# Altium integrated library Microchip SST Flash.IntLib: 291 symbols (part 28 of 38)
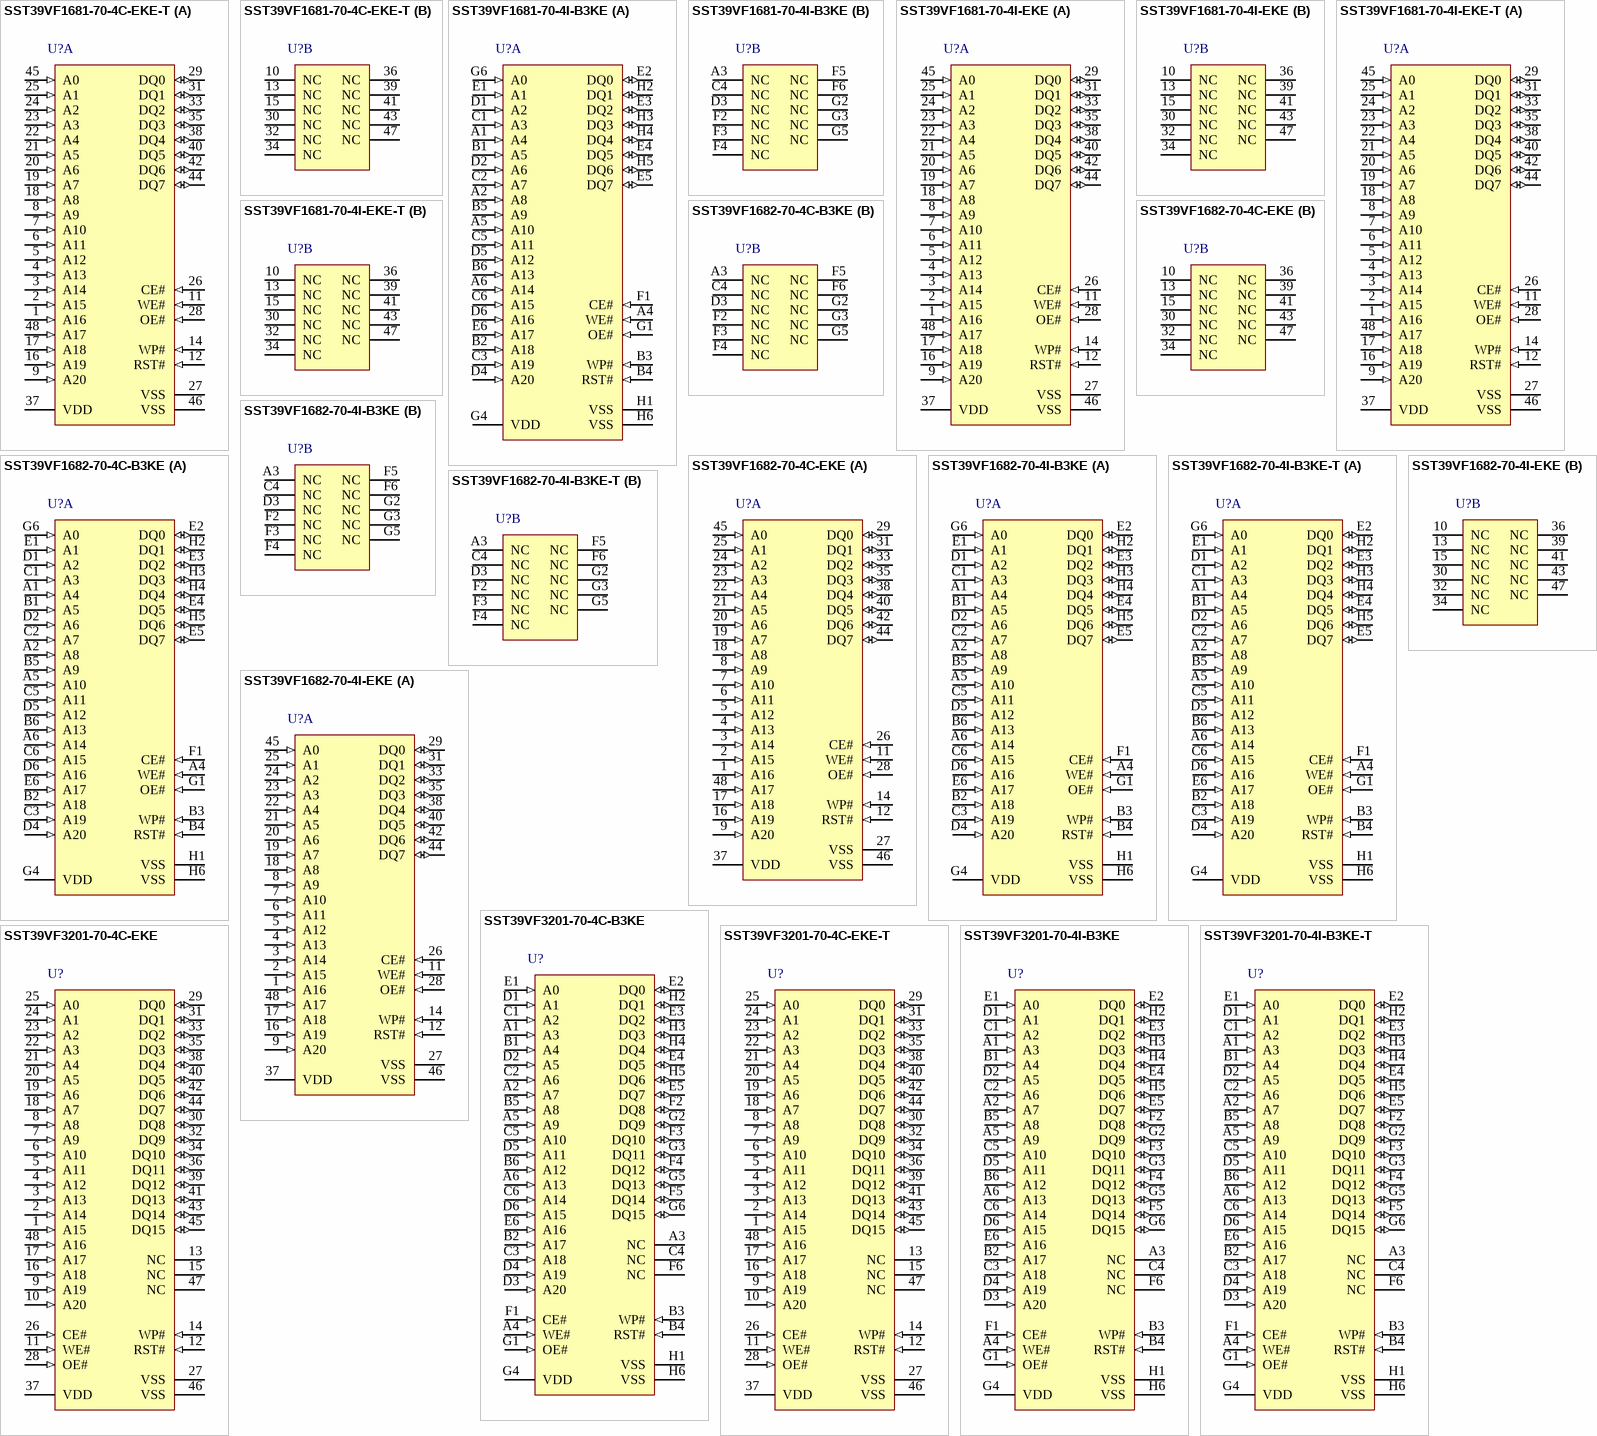
[diagram p42: symbols SST39VF1681-70-4C-EKE-T to SST39VF3201-70-4I-B3KE-T]

## SST39VF1681-70-4C-EKE-T
designator U?
16 Mbit Multi-Purpose Flash Plus, 2.7 to 3.6 V, 0 to 70 degC, 48-pin TSOP (EK48), Tape and Reel; Manufacturer: Microchip; PartNumber: SST39VF1681-70-4C-EKE-T; DatasheetVersion: DS25040A; PackageVersion: Rev. A; PackageReference: TSOP-EK48; PackageDescription: 48-Lead Thin Small Outline Package, 18.4 x 12 mm Body, 0.5 mm Pitch; Supplier 1: Digi-Key; Supplier Part Number 1: SST39VF1681-70-4C-EKE-T-ND; Supplier 2: Mouser; Supplier Part Number 2: 804-39VF16817CEKE-T; Mounting Technology: Surface Mount; Code_JEDEC: MO-142; ComponentLink1Description: Manufacturer URL; ComponentLink1URL: http://www.microchip.com; ComponentLink2Description: Datasheet; ComponentLink2URL: http://ww1.microchip.com/downloads/en/DeviceDoc/25040A.pdf; ComponentLink3Description: Package Specification; ComponentLink3URL: http://ww1.microchip.com/downloads/en/DeviceDoc/25008A.pdf; ComponentLink4Description: Product URL; ComponentLink4URL: http://www.microchip.com/SST39VF1681
footprint MCHP-TSOP-EK48_N (SOP, 48-Leads, Body 18.4x12mm, Pitch 0.5mm, IPC Medium Density,)
footprint MCHP-TSOP-EK48_L (SOP, 48-Leads, Body 18.4x12mm, Pitch 0.5mm, IPC High Density)
footprint MCHP-TSOP-EK48_M (SOP, 48-Leads, Body 18.4x12mm, Pitch 0.5mm, IPC Low Density,)
part A pins: 1 A16 (in) "To provide memory addresses. During Sector-Erase AMS-A12 address lines will select the sector. During Block-Erase AMS-A16 address lines will select the block.", 2 A15 (in) "To provide memory addresses. During Sector-Erase AMS-A12 address lines will select the sector. During Block-Erase AMS-A16 address lines will select the block.", 3 A14 (in) "To provide memory addresses. During Sector-Erase AMS-A12 address lines will select the sector. During Block-Erase AMS-A16 address lines will select the block.", 4 A13 (in) "To provide memory addresses. During Sector-Erase AMS-A12 address lines will select the sector. During Block-Erase AMS-A16 address lines will select the block.", 5 A12 (in) "To provide memory addresses. During Sector-Erase AMS-A12 address lines will select the sector. During Block-Erase AMS-A16 address lines will select the block.", 6 A11 (in) "To provide memory addresses. During Sector-Erase AMS-A12 address lines will select the sector. During Block-Erase AMS-A16 address lines will select the block.", 7 A10 (in) "To provide memory addresses. During Sector-Erase AMS-A12 address lines will select the sector. During Block-Erase AMS-A16 address lines will select the block.", 8 A9 (in) "To provide memory addresses. During Sector-Erase AMS-A12 address lines will select the sector. During Block-Erase AMS-A16 address lines will select the block.", 9 A20 (in) "To provide memory addresses. During Sector-Erase AMS-A12 address lines will select the sector. During Block-Erase AMS-A16 address lines will select the block.", 11 WE# (in) "To control the Write operations.", 12 RST# (in) "To reset and return the device to Read mode.", 14 WP# (in) "To protect the top/bottom boot block from Erase/Program operation when grounded.", 16 A19 (in) "To provide memory addresses. During Sector-Erase AMS-A12 address lines will select the sector. During Block-Erase AMS-A16 address lines will select the block.", 17 A18 (in) "To provide memory addresses. During Sector-Erase AMS-A12 address lines will select the sector. During Block-Erase AMS-A16 address lines will select the block.", 18 A8 (in) "To provide memory addresses. During Sector-Erase AMS-A12 address lines will select the sector. During Block-Erase AMS-A16 address lines will select the block.", 19 A7 (in) "To provide memory addresses. During Sector-Erase AMS-A12 address lines will select the sector. During Block-Erase AMS-A16 address lines will select the block.", 20 A6 (in) "To provide memory addresses. During Sector-Erase AMS-A12 address lines will select the sector. During Block-Erase AMS-A16 address lines will select the block.", 21 A5 (in) "To provide memory addresses. During Sector-Erase AMS-A12 address lines will select the sector. During Block-Erase AMS-A16 address lines will select the block.", 22 A4 (in) "To provide memory addresses. During Sector-Erase AMS-A12 address lines will select the sector. During Block-Erase AMS-A16 address lines will select the block.", 23 A3 (in) "To provide memory addresses. During Sector-Erase AMS-A12 address lines will select the sector. During Block-Erase AMS-A16 address lines will select the block.", 24 A2 (in) "To provide memory addresses. During Sector-Erase AMS-A12 address lines will select the sector. During Block-Erase AMS-A16 address lines will select the block.", 25 A1 (in) "To provide memory addresses. During Sector-Erase AMS-A12 address lines will select the sector. During Block-Erase AMS-A16 address lines will select the block.", 26 CE# (in) "To activate the device when CE# is low.", 27 VSS (power), 28 OE# (in) "To gate the data output buffers.", 29 DQ0 (io) "To output data during Read cycles and receive input data during Write cycles.Data is internally latched during a Write cycle. The outputs are in tri-state when OE# or CE# is high.", 31 DQ1 (io) "To output data during Read cycles and receive input data during Write cycles.Data is internally latched during a Write cycle. The outputs are in tri-state when OE# or CE# is high.", 33 DQ2 (io) "To output data during Read cycles and receive input data during Write cycles.Data is internally latched during a Write cycle. The outputs are in tri-state when OE# or CE# is high.", 35 DQ3 (io) "To output data during Read cycles and receive input data during Write cycles.Data is internally latched during a Write cycle. The outputs are in tri-state when OE# or CE# is high.", 37 VDD (power) "To provide power supply voltage: 2.7-3.6V", 38 DQ4 (io) "To output data during Read cycles and receive input data during Write cycles.Data is internally latched during a Write cycle. The outputs are in tri-state when OE# or CE# is high.", 40 DQ5 (io) "To output data during Read cycles and receive input data during Write cycles.Data is internally latched during a Write cycle. The outputs are in tri-state when OE# or CE# is high.", 42 DQ6 (io) "To output data during Read cycles and receive input data during Write cycles.Data is internally latched during a Write cycle. The outputs are in tri-state when OE# or CE# is high.", 44 DQ7 (io) "To output data during Read cycles and receive input data during Write cycles.Data is internally latched during a Write cycle. The outputs are in tri-state when OE# or CE# is high.", 45 A0 (in) "To provide memory addresses. During Sector-Erase AMS-A12 address lines will select the sector. During Block-Erase AMS-A16 address lines will select the block.", 46 VSS (power), 48 A17 (in) "To provide memory addresses. During Sector-Erase AMS-A12 address lines will select the sector. During Block-Erase AMS-A16 address lines will select the block."
part B pins: 10 NC "Unconnected pins.", 13 NC "Unconnected pins.", 15 NC "Unconnected pins.", 30 NC "Unconnected pins.", 32 NC "Unconnected pins.", 34 NC "Unconnected pins.", 36 NC "Unconnected pins.", 39 NC "Unconnected pins.", 41 NC "Unconnected pins.", 43 NC "Unconnected pins.", 47 NC "Unconnected pins."

## SST39VF1681-70-4I-B3KE
designator U?
16 Mbit Multi-Purpose Flash Plus, 2.7 to 3.6 V, -40 to 85 degC, 48-pin TFBGA (B3K48), Tray; Manufacturer: Microchip; PartNumber: SST39VF1681-70-4I-B3KE; DatasheetVersion: DS25040A; PackageVersion: Rev. A; PackageReference: TFBGA-B3K48; PackageDescription: 48-Ball Thin-Profile, Fine-Pitch Ball Grid Array, 8 x 6 mm Body, 0.8 mm Pitch; Supplier 1: Digi-Key; Supplier Part Number 1: SST39VF1681-70-4I-B3KE-ND; Supplier 2: Mouser; Supplier Part Number 2: 804-39VF16817IB3KE; Mounting Technology: Surface Mount; Code_JEDEC: MO-210; ComponentLink1Description: Manufacturer URL; ComponentLink1URL: http://www.microchip.com; ComponentLink2Description: Datasheet; ComponentLink2URL: http://ww1.microchip.com/downloads/en/DeviceDoc/25040A.pdf; ComponentLink3Description: Package Specification; ComponentLink3URL: http://www.microchip.com/stellent/groups/techpub_sg/documents/packagingspec/en012702.pdf; ComponentLink4Description: Product URL; ComponentLink4URL: http://www.microchip.com/SST39VF1681
footprint MCHP-TFBGA-B3K48 (BGA, 48-Balls, Body 8x6mm, Pitch 0.8mm)
part A pins: A1 A4 (in) "To provide memory addresses. During Sector-Erase AMS-A12 address lines will select the sector. During Block-Erase AMS-A16 address lines will select the block.", A2 A8 (in) "To provide memory addresses. During Sector-Erase AMS-A12 address lines will select the sector. During Block-Erase AMS-A16 address lines will select the block.", A4 WE# (in) "To control the Write operations.", A5 A10 (in) "To provide memory addresses. During Sector-Erase AMS-A12 address lines will select the sector. During Block-Erase AMS-A16 address lines will select the block.", A6 A14 (in) "To provide memory addresses. During Sector-Erase AMS-A12 address lines will select the sector. During Block-Erase AMS-A16 address lines will select the block.", B1 A5 (in) "To provide memory addresses. During Sector-Erase AMS-A12 address lines will select the sector. During Block-Erase AMS-A16 address lines will select the block.", B2 A18 (in) "To provide memory addresses. During Sector-Erase AMS-A12 address lines will select the sector. During Block-Erase AMS-A16 address lines will select the block.", B3 WP# (in) "To protect the top/bottom boot block from Erase/Program operation when grounded.", B4 RST# (in) "To reset and return the device to Read mode.", B5 A9 (in) "To provide memory addresses. During Sector-Erase AMS-A12 address lines will select the sector. During Block-Erase AMS-A16 address lines will select the block.", B6 A13 (in) "To provide memory addresses. During Sector-Erase AMS-A12 address lines will select the sector. During Block-Erase AMS-A16 address lines will select the block.", C1 A3 (in) "To provide memory addresses. During Sector-Erase AMS-A12 address lines will select the sector. During Block-Erase AMS-A16 address lines will select the block.", C2 A7 (in) "To provide memory addresses. During Sector-Erase AMS-A12 address lines will select the sector. During Block-Erase AMS-A16 address lines will select the block.", C3 A19 (in) "To provide memory addresses. During Sector-Erase AMS-A12 address lines will select the sector. During Block-Erase AMS-A16 address lines will select the block.", C5 A11 (in) "To provide memory addresses. During Sector-Erase AMS-A12 address lines will select the sector. During Block-Erase AMS-A16 address lines will select the block.", C6 A15 (in) "To provide memory addresses. During Sector-Erase AMS-A12 address lines will select the sector. During Block-Erase AMS-A16 address lines will select the block.", D1 A2 (in) "To provide memory addresses. During Sector-Erase AMS-A12 address lines will select the sector. During Block-Erase AMS-A16 address lines will select the block.", D2 A6 (in) "To provide memory addresses. During Sector-Erase AMS-A12 address lines will select the sector. During Block-Erase AMS-A16 address lines will select the block.", D4 A20 (in) "To provide memory addresses. During Sector-Erase AMS-A12 address lines will select the sector. During Block-Erase AMS-A16 address lines will select the block.", D5 A12 (in) "To provide memory addresses. During Sector-Erase AMS-A12 address lines will select the sector. During Block-Erase AMS-A16 address lines will select the block.", D6 A16 (in) "To provide memory addresses. During Sector-Erase AMS-A12 address lines will select the sector. During Block-Erase AMS-A16 address lines will select the block.", E1 A1 (in) "To provide memory addresses. During Sector-Erase AMS-A12 address lines will select the sector. During Block-Erase AMS-A16 address lines will select the block.", E2 DQ0 (io) "To output data during Read cycles and receive input data during Write cycles.Data is internally latched during a Write cycle. The outputs are in tri-state when OE# or CE# is high.", E3 DQ2 (io) "To output data during Read cycles and receive input data during Write cycles.Data is internally latched during a Write cycle. The outputs are in tri-state when OE# or CE# is high.", E4 DQ5 (io) "To output data during Read cycles and receive input data during Write cycles.Data is internally latched during a Write cycle. The outputs are in tri-state when OE# or CE# is high.", E5 DQ7 (io) "To output data during Read cycles and receive input data during Write cycles.Data is internally latched during a Write cycle. The outputs are in tri-state when OE# or CE# is high.", E6 A17 (in) "To provide memory addresses. During Sector-Erase AMS-A12 address lines will select the sector. During Block-Erase AMS-A16 address lines will select the block.", F1 CE# (in) "To activate the device when CE# is low.", G1 OE# (in) "To gate the data output buffers.", G4 VDD (power) "To provide power supply voltage: 2.7-3.6V", G6 A0 (in) "To provide memory addresses. During Sector-Erase AMS-A12 address lines will select the sector. During Block-Erase AMS-A16 address lines will select the block.", H1 VSS (power), H2 DQ1 (io) "To output data during Read cycles and receive input data during Write cycles.Data is internally latched during a Write cycle. The outputs are in tri-state when OE# or CE# is high.", H3 DQ3 (io) "To output data during Read cycles and receive input data during Write cycles.Data is internally latched during a Write cycle. The outputs are in tri-state when OE# or CE# is high.", H4 DQ4 (io) "To output data during Read cycles and receive input data during Write cycles.Data is internally latched during a Write cycle. The outputs are in tri-state when OE# or CE# is high.", H5 DQ6 (io) "To output data during Read cycles and receive input data during Write cycles.Data is internally latched during a Write cycle. The outputs are in tri-state when OE# or CE# is high.", H6 VSS (power)
part B pins: A3 NC "Unconnected pins.", C4 NC "Unconnected pins.", D3 NC "Unconnected pins.", F2 NC "Unconnected pins.", F3 NC "Unconnected pins.", F4 NC "Unconnected pins.", F5 NC "Unconnected pins.", F6 NC "Unconnected pins.", G2 NC "Unconnected pins.", G3 NC "Unconnected pins.", G5 NC "Unconnected pins."

## SST39VF1681-70-4I-EKE
designator U?
16 Mbit Multi-Purpose Flash Plus, 2.7 to 3.6 V, -40 to 85 degC, 48-pin TSOP (EK48), Tray; Manufacturer: Microchip; PartNumber: SST39VF1681-70-4I-EKE; DatasheetVersion: DS25040A; PackageVersion: Rev. A; PackageReference: TSOP-EK48; PackageDescription: 48-Lead Thin Small Outline Package, 18.4 x 12 mm Body, 0.5 mm Pitch; Supplier 1: Digi-Key; Supplier Part Number 1: SST39VF1681-70-4I-EKE-ND; Supplier 2: Farnell; Supplier Part Number 2: 1829992; Supplier 3: Newark; Supplier Part Number 3: 92R4797; Supplier 4: Mouser; Supplier Part Number 4: 804-39VF16817IEKE; Mounting Technology: Surface Mount; Code_JEDEC: MO-142; ComponentLink1Description: Manufacturer URL; ComponentLink1URL: http://www.microchip.com; ComponentLink2Description: Datasheet; ComponentLink2URL: http://ww1.microchip.com/downloads/en/DeviceDoc/25040A.pdf; ComponentLink3Description: Package Specification; ComponentLink3URL: http://ww1.microchip.com/downloads/en/DeviceDoc/25008A.pdf; ComponentLink4Description: Product URL; ComponentLink4URL: http://www.microchip.com/SST39VF1681
footprint MCHP-TSOP-EK48_N (SOP, 48-Leads, Body 18.4x12mm, Pitch 0.5mm, IPC Medium Density,)
footprint MCHP-TSOP-EK48_L (SOP, 48-Leads, Body 18.4x12mm, Pitch 0.5mm, IPC High Density)
footprint MCHP-TSOP-EK48_M (SOP, 48-Leads, Body 18.4x12mm, Pitch 0.5mm, IPC Low Density,)
part A pins: 1 A16 (in) "To provide memory addresses. During Sector-Erase AMS-A12 address lines will select the sector. During Block-Erase AMS-A16 address lines will select the block.", 2 A15 (in) "To provide memory addresses. During Sector-Erase AMS-A12 address lines will select the sector. During Block-Erase AMS-A16 address lines will select the block.", 3 A14 (in) "To provide memory addresses. During Sector-Erase AMS-A12 address lines will select the sector. During Block-Erase AMS-A16 address lines will select the block.", 4 A13 (in) "To provide memory addresses. During Sector-Erase AMS-A12 address lines will select the sector. During Block-Erase AMS-A16 address lines will select the block.", 5 A12 (in) "To provide memory addresses. During Sector-Erase AMS-A12 address lines will select the sector. During Block-Erase AMS-A16 address lines will select the block.", 6 A11 (in) "To provide memory addresses. During Sector-Erase AMS-A12 address lines will select the sector. During Block-Erase AMS-A16 address lines will select the block.", 7 A10 (in) "To provide memory addresses. During Sector-Erase AMS-A12 address lines will select the sector. During Block-Erase AMS-A16 address lines will select the block.", 8 A9 (in) "To provide memory addresses. During Sector-Erase AMS-A12 address lines will select the sector. During Block-Erase AMS-A16 address lines will select the block.", 9 A20 (in) "To provide memory addresses. During Sector-Erase AMS-A12 address lines will select the sector. During Block-Erase AMS-A16 address lines will select the block.", 11 WE# (in) "To control the Write operations.", 12 RST# (in) "To reset and return the device to Read mode.", 14 WP# (in) "To protect the top/bottom boot block from Erase/Program operation when grounded.", 16 A19 (in) "To provide memory addresses. During Sector-Erase AMS-A12 address lines will select the sector. During Block-Erase AMS-A16 address lines will select the block.", 17 A18 (in) "To provide memory addresses. During Sector-Erase AMS-A12 address lines will select the sector. During Block-Erase AMS-A16 address lines will select the block.", 18 A8 (in) "To provide memory addresses. During Sector-Erase AMS-A12 address lines will select the sector. During Block-Erase AMS-A16 address lines will select the block.", 19 A7 (in) "To provide memory addresses. During Sector-Erase AMS-A12 address lines will select the sector. During Block-Erase AMS-A16 address lines will select the block.", 20 A6 (in) "To provide memory addresses. During Sector-Erase AMS-A12 address lines will select the sector. During Block-Erase AMS-A16 address lines will select the block.", 21 A5 (in) "To provide memory addresses. During Sector-Erase AMS-A12 address lines will select the sector. During Block-Erase AMS-A16 address lines will select the block.", 22 A4 (in) "To provide memory addresses. During Sector-Erase AMS-A12 address lines will select the sector. During Block-Erase AMS-A16 address lines will select the block.", 23 A3 (in) "To provide memory addresses. During Sector-Erase AMS-A12 address lines will select the sector. During Block-Erase AMS-A16 address lines will select the block.", 24 A2 (in) "To provide memory addresses. During Sector-Erase AMS-A12 address lines will select the sector. During Block-Erase AMS-A16 address lines will select the block.", 25 A1 (in) "To provide memory addresses. During Sector-Erase AMS-A12 address lines will select the sector. During Block-Erase AMS-A16 address lines will select the block.", 26 CE# (in) "To activate the device when CE# is low.", 27 VSS (power), 28 OE# (in) "To gate the data output buffers.", 29 DQ0 (io) "To output data during Read cycles and receive input data during Write cycles.Data is internally latched during a Write cycle. The outputs are in tri-state when OE# or CE# is high.", 31 DQ1 (io) "To output data during Read cycles and receive input data during Write cycles.Data is internally latched during a Write cycle. The outputs are in tri-state when OE# or CE# is high.", 33 DQ2 (io) "To output data during Read cycles and receive input data during Write cycles.Data is internally latched during a Write cycle. The outputs are in tri-state when OE# or CE# is high.", 35 DQ3 (io) "To output data during Read cycles and receive input data during Write cycles.Data is internally latched during a Write cycle. The outputs are in tri-state when OE# or CE# is high.", 37 VDD (power) "To provide power supply voltage: 2.7-3.6V", 38 DQ4 (io) "To output data during Read cycles and receive input data during Write cycles.Data is internally latched during a Write cycle. The outputs are in tri-state when OE# or CE# is high.", 40 DQ5 (io) "To output data during Read cycles and receive input data during Write cycles.Data is internally latched during a Write cycle. The outputs are in tri-state when OE# or CE# is high.", 42 DQ6 (io) "To output data during Read cycles and receive input data during Write cycles.Data is internally latched during a Write cycle. The outputs are in tri-state when OE# or CE# is high.", 44 DQ7 (io) "To output data during Read cycles and receive input data during Write cycles.Data is internally latched during a Write cycle. The outputs are in tri-state when OE# or CE# is high.", 45 A0 (in) "To provide memory addresses. During Sector-Erase AMS-A12 address lines will select the sector. During Block-Erase AMS-A16 address lines will select the block.", 46 VSS (power), 48 A17 (in) "To provide memory addresses. During Sector-Erase AMS-A12 address lines will select the sector. During Block-Erase AMS-A16 address lines will select the block."
part B pins: 10 NC "Unconnected pins.", 13 NC "Unconnected pins.", 15 NC "Unconnected pins.", 30 NC "Unconnected pins.", 32 NC "Unconnected pins.", 34 NC "Unconnected pins.", 36 NC "Unconnected pins.", 39 NC "Unconnected pins.", 41 NC "Unconnected pins.", 43 NC "Unconnected pins.", 47 NC "Unconnected pins."

## SST39VF1681-70-4I-EKE-T
designator U?
16 Mbit Multi-Purpose Flash Plus, 2.7 to 3.6 V, -40 to 85 degC, 48-pin TSOP (EK48), Tape and Reel; Manufacturer: Microchip; PartNumber: SST39VF1681-70-4I-EKE-T; DatasheetVersion: DS25040A; PackageVersion: Rev. A; PackageReference: TSOP-EK48; PackageDescription: 48-Lead Thin Small Outline Package, 18.4 x 12 mm Body, 0.5 mm Pitch; Supplier 1: Digi-Key; Supplier Part Number 1: SST39VF1681-70-4I-EKE-T-ND; Supplier 2: Mouser; Supplier Part Number 2: 579-39VF16817IEKET; Mounting Technology: Surface Mount; Code_JEDEC: MO-142; ComponentLink1Description: Manufacturer URL; ComponentLink1URL: http://www.microchip.com; ComponentLink2Description: Datasheet; ComponentLink2URL: http://ww1.microchip.com/downloads/en/DeviceDoc/25040A.pdf; ComponentLink3Description: Package Specification; ComponentLink3URL: http://ww1.microchip.com/downloads/en/DeviceDoc/25008A.pdf; ComponentLink4Description: Product URL; ComponentLink4URL: http://www.microchip.com/SST39VF1681
footprint MCHP-TSOP-EK48_N (SOP, 48-Leads, Body 18.4x12mm, Pitch 0.5mm, IPC Medium Density,)
footprint MCHP-TSOP-EK48_L (SOP, 48-Leads, Body 18.4x12mm, Pitch 0.5mm, IPC High Density)
footprint MCHP-TSOP-EK48_M (SOP, 48-Leads, Body 18.4x12mm, Pitch 0.5mm, IPC Low Density,)
part A pins: 1 A16 (in) "To provide memory addresses. During Sector-Erase AMS-A12 address lines will select the sector. During Block-Erase AMS-A16 address lines will select the block.", 2 A15 (in) "To provide memory addresses. During Sector-Erase AMS-A12 address lines will select the sector. During Block-Erase AMS-A16 address lines will select the block.", 3 A14 (in) "To provide memory addresses. During Sector-Erase AMS-A12 address lines will select the sector. During Block-Erase AMS-A16 address lines will select the block.", 4 A13 (in) "To provide memory addresses. During Sector-Erase AMS-A12 address lines will select the sector. During Block-Erase AMS-A16 address lines will select the block.", 5 A12 (in) "To provide memory addresses. During Sector-Erase AMS-A12 address lines will select the sector. During Block-Erase AMS-A16 address lines will select the block.", 6 A11 (in) "To provide memory addresses. During Sector-Erase AMS-A12 address lines will select the sector. During Block-Erase AMS-A16 address lines will select the block.", 7 A10 (in) "To provide memory addresses. During Sector-Erase AMS-A12 address lines will select the sector. During Block-Erase AMS-A16 address lines will select the block.", 8 A9 (in) "To provide memory addresses. During Sector-Erase AMS-A12 address lines will select the sector. During Block-Erase AMS-A16 address lines will select the block.", 9 A20 (in) "To provide memory addresses. During Sector-Erase AMS-A12 address lines will select the sector. During Block-Erase AMS-A16 address lines will select the block.", 11 WE# (in) "To control the Write operations.", 12 RST# (in) "To reset and return the device to Read mode.", 14 WP# (in) "To protect the top/bottom boot block from Erase/Program operation when grounded.", 16 A19 (in) "To provide memory addresses. During Sector-Erase AMS-A12 address lines will select the sector. During Block-Erase AMS-A16 address lines will select the block.", 17 A18 (in) "To provide memory addresses. During Sector-Erase AMS-A12 address lines will select the sector. During Block-Erase AMS-A16 address lines will select the block.", 18 A8 (in) "To provide memory addresses. During Sector-Erase AMS-A12 address lines will select the sector. During Block-Erase AMS-A16 address lines will select the block.", 19 A7 (in) "To provide memory addresses. During Sector-Erase AMS-A12 address lines will select the sector. During Block-Erase AMS-A16 address lines will select the block.", 20 A6 (in) "To provide memory addresses. During Sector-Erase AMS-A12 address lines will select the sector. During Block-Erase AMS-A16 address lines will select the block.", 21 A5 (in) "To provide memory addresses. During Sector-Erase AMS-A12 address lines will select the sector. During Block-Erase AMS-A16 address lines will select the block.", 22 A4 (in) "To provide memory addresses. During Sector-Erase AMS-A12 address lines will select the sector. During Block-Erase AMS-A16 address lines will select the block.", 23 A3 (in) "To provide memory addresses. During Sector-Erase AMS-A12 address lines will select the sector. During Block-Erase AMS-A16 address lines will select the block.", 24 A2 (in) "To provide memory addresses. During Sector-Erase AMS-A12 address lines will select the sector. During Block-Erase AMS-A16 address lines will select the block.", 25 A1 (in) "To provide memory addresses. During Sector-Erase AMS-A12 address lines will select the sector. During Block-Erase AMS-A16 address lines will select the block.", 26 CE# (in) "To activate the device when CE# is low.", 27 VSS (power), 28 OE# (in) "To gate the data output buffers.", 29 DQ0 (io) "To output data during Read cycles and receive input data during Write cycles.Data is internally latched during a Write cycle. The outputs are in tri-state when OE# or CE# is high.", 31 DQ1 (io) "To output data during Read cycles and receive input data during Write cycles.Data is internally latched during a Write cycle. The outputs are in tri-state when OE# or CE# is high.", 33 DQ2 (io) "To output data during Read cycles and receive input data during Write cycles.Data is internally latched during a Write cycle. The outputs are in tri-state when OE# or CE# is high.", 35 DQ3 (io) "To output data during Read cycles and receive input data during Write cycles.Data is internally latched during a Write cycle. The outputs are in tri-state when OE# or CE# is high.", 37 VDD (power) "To provide power supply voltage: 2.7-3.6V", 38 DQ4 (io) "To output data during Read cycles and receive input data during Write cycles.Data is internally latched during a Write cycle. The outputs are in tri-state when OE# or CE# is high.", 40 DQ5 (io) "To output data during Read cycles and receive input data during Write cycles.Data is internally latched during a Write cycle. The outputs are in tri-state when OE# or CE# is high.", 42 DQ6 (io) "To output data during Read cycles and receive input data during Write cycles.Data is internally latched during a Write cycle. The outputs are in tri-state when OE# or CE# is high.", 44 DQ7 (io) "To output data during Read cycles and receive input data during Write cycles.Data is internally latched during a Write cycle. The outputs are in tri-state when OE# or CE# is high.", 45 A0 (in) "To provide memory addresses. During Sector-Erase AMS-A12 address lines will select the sector. During Block-Erase AMS-A16 address lines will select the block.", 46 VSS (power), 48 A17 (in) "To provide memory addresses. During Sector-Erase AMS-A12 address lines will select the sector. During Block-Erase AMS-A16 address lines will select the block."
part B pins: 10 NC "Unconnected pins.", 13 NC "Unconnected pins.", 15 NC "Unconnected pins.", 30 NC "Unconnected pins.", 32 NC "Unconnected pins.", 34 NC "Unconnected pins.", 36 NC "Unconnected pins.", 39 NC "Unconnected pins.", 41 NC "Unconnected pins.", 43 NC "Unconnected pins.", 47 NC "Unconnected pins."

## SST39VF1682-70-4C-B3KE
designator U?
16 Mbit Multi-Purpose Flash Plus, 2.7 to 3.6 V, 0 to 70 degC, 48-pin TFBGA (B3K48), Tray; Manufacturer: Microchip; PartNumber: SST39VF1682-70-4C-B3KE; DatasheetVersion: DS25040A; PackageVersion: Rev. A; PackageReference: TFBGA-B3K48; PackageDescription: 48-Ball Thin-Profile, Fine-Pitch Ball Grid Array, 8 x 6 mm Body, 0.8 mm Pitch; Supplier 1: Digi-Key; Supplier Part Number 1: SST39VF1682-70-4C-B3KE-ND; Supplier 2: Mouser; Supplier Part Number 2: 804-39VF16827CB3KE; Mounting Technology: Surface Mount; Code_JEDEC: MO-210; ComponentLink1Description: Manufacturer URL; ComponentLink1URL: http://www.microchip.com; ComponentLink2Description: Datasheet; ComponentLink2URL: http://ww1.microchip.com/downloads/en/DeviceDoc/25040A.pdf; ComponentLink3Description: Package Specification; ComponentLink3URL: http://www.microchip.com/stellent/groups/techpub_sg/documents/packagingspec/en012702.pdf; ComponentLink4Description: Product URL; ComponentLink4URL: http://www.microchip.com/SST39VF1682
footprint MCHP-TFBGA-B3K48 (BGA, 48-Balls, Body 8x6mm, Pitch 0.8mm)
part A pins: A1 A4 (in) "To provide memory addresses. During Sector-Erase AMS-A12 address lines will select the sector. During Block-Erase AMS-A16 address lines will select the block.", A2 A8 (in) "To provide memory addresses. During Sector-Erase AMS-A12 address lines will select the sector. During Block-Erase AMS-A16 address lines will select the block.", A4 WE# (in) "To control the Write operations.", A5 A10 (in) "To provide memory addresses. During Sector-Erase AMS-A12 address lines will select the sector. During Block-Erase AMS-A16 address lines will select the block.", A6 A14 (in) "To provide memory addresses. During Sector-Erase AMS-A12 address lines will select the sector. During Block-Erase AMS-A16 address lines will select the block.", B1 A5 (in) "To provide memory addresses. During Sector-Erase AMS-A12 address lines will select the sector. During Block-Erase AMS-A16 address lines will select the block.", B2 A18 (in) "To provide memory addresses. During Sector-Erase AMS-A12 address lines will select the sector. During Block-Erase AMS-A16 address lines will select the block.", B3 WP# (in) "To protect the top/bottom boot block from Erase/Program operation when grounded.", B4 RST# (in) "To reset and return the device to Read mode.", B5 A9 (in) "To provide memory addresses. During Sector-Erase AMS-A12 address lines will select the sector. During Block-Erase AMS-A16 address lines will select the block.", B6 A13 (in) "To provide memory addresses. During Sector-Erase AMS-A12 address lines will select the sector. During Block-Erase AMS-A16 address lines will select the block.", C1 A3 (in) "To provide memory addresses. During Sector-Erase AMS-A12 address lines will select the sector. During Block-Erase AMS-A16 address lines will select the block.", C2 A7 (in) "To provide memory addresses. During Sector-Erase AMS-A12 address lines will select the sector. During Block-Erase AMS-A16 address lines will select the block.", C3 A19 (in) "To provide memory addresses. During Sector-Erase AMS-A12 address lines will select the sector. During Block-Erase AMS-A16 address lines will select the block.", C5 A11 (in) "To provide memory addresses. During Sector-Erase AMS-A12 address lines will select the sector. During Block-Erase AMS-A16 address lines will select the block.", C6 A15 (in) "To provide memory addresses. During Sector-Erase AMS-A12 address lines will select the sector. During Block-Erase AMS-A16 address lines will select the block.", D1 A2 (in) "To provide memory addresses. During Sector-Erase AMS-A12 address lines will select the sector. During Block-Erase AMS-A16 address lines will select the block.", D2 A6 (in) "To provide memory addresses. During Sector-Erase AMS-A12 address lines will select the sector. During Block-Erase AMS-A16 address lines will select the block.", D4 A20 (in) "To provide memory addresses. During Sector-Erase AMS-A12 address lines will select the sector. During Block-Erase AMS-A16 address lines will select the block.", D5 A12 (in) "To provide memory addresses. During Sector-Erase AMS-A12 address lines will select the sector. During Block-Erase AMS-A16 address lines will select the block.", D6 A16 (in) "To provide memory addresses. During Sector-Erase AMS-A12 address lines will select the sector. During Block-Erase AMS-A16 address lines will select the block.", E1 A1 (in) "To provide memory addresses. During Sector-Erase AMS-A12 address lines will select the sector. During Block-Erase AMS-A16 address lines will select the block.", E2 DQ0 (io) "To output data during Read cycles and receive input data during Write cycles.Data is internally latched during a Write cycle. The outputs are in tri-state when OE# or CE# is high.", E3 DQ2 (io) "To output data during Read cycles and receive input data during Write cycles.Data is internally latched during a Write cycle. The outputs are in tri-state when OE# or CE# is high.", E4 DQ5 (io) "To output data during Read cycles and receive input data during Write cycles.Data is internally latched during a Write cycle. The outputs are in tri-state when OE# or CE# is high.", E5 DQ7 (io) "To output data during Read cycles and receive input data during Write cycles.Data is internally latched during a Write cycle. The outputs are in tri-state when OE# or CE# is high.", E6 A17 (in) "To provide memory addresses. During Sector-Erase AMS-A12 address lines will select the sector. During Block-Erase AMS-A16 address lines will select the block.", F1 CE# (in) "To activate the device when CE# is low.", G1 OE# (in) "To gate the data output buffers.", G4 VDD (power) "To provide power supply voltage: 2.7-3.6V", G6 A0 (in) "To provide memory addresses. During Sector-Erase AMS-A12 address lines will select the sector. During Block-Erase AMS-A16 address lines will select the block.", H1 VSS (power), H2 DQ1 (io) "To output data during Read cycles and receive input data during Write cycles.Data is internally latched during a Write cycle. The outputs are in tri-state when OE# or CE# is high.", H3 DQ3 (io) "To output data during Read cycles and receive input data during Write cycles.Data is internally latched during a Write cycle. The outputs are in tri-state when OE# or CE# is high.", H4 DQ4 (io) "To output data during Read cycles and receive input data during Write cycles.Data is internally latched during a Write cycle. The outputs are in tri-state when OE# or CE# is high.", H5 DQ6 (io) "To output data during Read cycles and receive input data during Write cycles.Data is internally latched during a Write cycle. The outputs are in tri-state when OE# or CE# is high.", H6 VSS (power)
part B pins: A3 NC "Unconnected pins.", C4 NC "Unconnected pins.", D3 NC "Unconnected pins.", F2 NC "Unconnected pins.", F3 NC "Unconnected pins.", F4 NC "Unconnected pins.", F5 NC "Unconnected pins.", F6 NC "Unconnected pins.", G2 NC "Unconnected pins.", G3 NC "Unconnected pins.", G5 NC "Unconnected pins."

## SST39VF1682-70-4C-EKE
designator U?
16 Mbit Multi-Purpose Flash Plus, 2.7 to 3.6 V, 0 to 70 degC, 48-pin TSOP (EK48), Tray; Manufacturer: Microchip; PartNumber: SST39VF1682-70-4C-EKE; DatasheetVersion: DS25040A; PackageVersion: Rev. A; PackageReference: TSOP-EK48; PackageDescription: 48-Lead Thin Small Outline Package, 18.4 x 12 mm Body, 0.5 mm Pitch; Supplier 1: Digi-Key; Supplier Part Number 1: SST39VF1682-70-4C-EKE-ND; Supplier 2: Newark; Supplier Part Number 2: 92R4800; Supplier 3: Mouser; Supplier Part Number 3: 804-39VF16827CEKE; Mounting Technology: Surface Mount; Code_JEDEC: MO-142; ComponentLink1Description: Manufacturer URL; ComponentLink1URL: http://www.microchip.com; ComponentLink2Description: Datasheet; ComponentLink2URL: http://ww1.microchip.com/downloads/en/DeviceDoc/25040A.pdf; ComponentLink3Description: Package Specification; ComponentLink3URL: http://ww1.microchip.com/downloads/en/DeviceDoc/25008A.pdf; ComponentLink4Description: Product URL; ComponentLink4URL: http://www.microchip.com/SST39VF1682
footprint MCHP-TSOP-EK48_N (SOP, 48-Leads, Body 18.4x12mm, Pitch 0.5mm, IPC Medium Density,)
footprint MCHP-TSOP-EK48_L (SOP, 48-Leads, Body 18.4x12mm, Pitch 0.5mm, IPC High Density)
footprint MCHP-TSOP-EK48_M (SOP, 48-Leads, Body 18.4x12mm, Pitch 0.5mm, IPC Low Density,)
part A pins: 1 A16 (in) "To provide memory addresses. During Sector-Erase AMS-A12 address lines will select the sector. During Block-Erase AMS-A16 address lines will select the block.", 2 A15 (in) "To provide memory addresses. During Sector-Erase AMS-A12 address lines will select the sector. During Block-Erase AMS-A16 address lines will select the block.", 3 A14 (in) "To provide memory addresses. During Sector-Erase AMS-A12 address lines will select the sector. During Block-Erase AMS-A16 address lines will select the block.", 4 A13 (in) "To provide memory addresses. During Sector-Erase AMS-A12 address lines will select the sector. During Block-Erase AMS-A16 address lines will select the block.", 5 A12 (in) "To provide memory addresses. During Sector-Erase AMS-A12 address lines will select the sector. During Block-Erase AMS-A16 address lines will select the block.", 6 A11 (in) "To provide memory addresses. During Sector-Erase AMS-A12 address lines will select the sector. During Block-Erase AMS-A16 address lines will select the block.", 7 A10 (in) "To provide memory addresses. During Sector-Erase AMS-A12 address lines will select the sector. During Block-Erase AMS-A16 address lines will select the block.", 8 A9 (in) "To provide memory addresses. During Sector-Erase AMS-A12 address lines will select the sector. During Block-Erase AMS-A16 address lines will select the block.", 9 A20 (in) "To provide memory addresses. During Sector-Erase AMS-A12 address lines will select the sector. During Block-Erase AMS-A16 address lines will select the block.", 11 WE# (in) "To control the Write operations.", 12 RST# (in) "To reset and return the device to Read mode.", 14 WP# (in) "To protect the top/bottom boot block from Erase/Program operation when grounded.", 16 A19 (in) "To provide memory addresses. During Sector-Erase AMS-A12 address lines will select the sector. During Block-Erase AMS-A16 address lines will select the block.", 17 A18 (in) "To provide memory addresses. During Sector-Erase AMS-A12 address lines will select the sector. During Block-Erase AMS-A16 address lines will select the block.", 18 A8 (in) "To provide memory addresses. During Sector-Erase AMS-A12 address lines will select the sector. During Block-Erase AMS-A16 address lines will select the block.", 19 A7 (in) "To provide memory addresses. During Sector-Erase AMS-A12 address lines will select the sector. During Block-Erase AMS-A16 address lines will select the block.", 20 A6 (in) "To provide memory addresses. During Sector-Erase AMS-A12 address lines will select the sector. During Block-Erase AMS-A16 address lines will select the block.", 21 A5 (in) "To provide memory addresses. During Sector-Erase AMS-A12 address lines will select the sector. During Block-Erase AMS-A16 address lines will select the block.", 22 A4 (in) "To provide memory addresses. During Sector-Erase AMS-A12 address lines will select the sector. During Block-Erase AMS-A16 address lines will select the block.", 23 A3 (in) "To provide memory addresses. During Sector-Erase AMS-A12 address lines will select the sector. During Block-Erase AMS-A16 address lines will select the block.", 24 A2 (in) "To provide memory addresses. During Sector-Erase AMS-A12 address lines will select the sector. During Block-Erase AMS-A16 address lines will select the block.", 25 A1 (in) "To provide memory addresses. During Sector-Erase AMS-A12 address lines will select the sector. During Block-Erase AMS-A16 address lines will select the block.", 26 CE# (in) "To activate the device when CE# is low.", 27 VSS (power), 28 OE# (in) "To gate the data output buffers.", 29 DQ0 (io) "To output data during Read cycles and receive input data during Write cycles.Data is internally latched during a Write cycle. The outputs are in tri-state when OE# or CE# is high.", 31 DQ1 (io) "To output data during Read cycles and receive input data during Write cycles.Data is internally latched during a Write cycle. The outputs are in tri-state when OE# or CE# is high.", 33 DQ2 (io) "To output data during Read cycles and receive input data during Write cycles.Data is internally latched during a Write cycle. The outputs are in tri-state when OE# or CE# is high.", 35 DQ3 (io) "To output data during Read cycles and receive input data during Write cycles.Data is internally latched during a Write cycle. The outputs are in tri-state when OE# or CE# is high.", 37 VDD (power) "To provide power supply voltage: 2.7-3.6V", 38 DQ4 (io) "To output data during Read cycles and receive input data during Write cycles.Data is internally latched during a Write cycle. The outputs are in tri-state when OE# or CE# is high.", 40 DQ5 (io) "To output data during Read cycles and receive input data during Write cycles.Data is internally latched during a Write cycle. The outputs are in tri-state when OE# or CE# is high.", 42 DQ6 (io) "To output data during Read cycles and receive input data during Write cycles.Data is internally latched during a Write cycle. The outputs are in tri-state when OE# or CE# is high.", 44 DQ7 (io) "To output data during Read cycles and receive input data during Write cycles.Data is internally latched during a Write cycle. The outputs are in tri-state when OE# or CE# is high.", 45 A0 (in) "To provide memory addresses. During Sector-Erase AMS-A12 address lines will select the sector. During Block-Erase AMS-A16 address lines will select the block.", 46 VSS (power), 48 A17 (in) "To provide memory addresses. During Sector-Erase AMS-A12 address lines will select the sector. During Block-Erase AMS-A16 address lines will select the block."
part B pins: 10 NC "Unconnected pins.", 13 NC "Unconnected pins.", 15 NC "Unconnected pins.", 30 NC "Unconnected pins.", 32 NC "Unconnected pins.", 34 NC "Unconnected pins.", 36 NC "Unconnected pins.", 39 NC "Unconnected pins.", 41 NC "Unconnected pins.", 43 NC "Unconnected pins.", 47 NC "Unconnected pins."

## SST39VF1682-70-4I-B3KE
designator U?
16 Mbit Multi-Purpose Flash Plus, 2.7 to 3.6 V, -40 to 85 degC, 48-pin TFBGA (B3K48), Tray; Manufacturer: Microchip; PartNumber: SST39VF1682-70-4I-B3KE; DatasheetVersion: DS25040A; PackageVersion: Rev. A; PackageReference: TFBGA-B3K48; PackageDescription: 48-Ball Thin-Profile, Fine-Pitch Ball Grid Array, 8 x 6 mm Body, 0.8 mm Pitch; Supplier 1: Digi-Key; Supplier Part Number 1: SST39VF1682-70-4I-B3KE-ND; Supplier 2: Mouser; Supplier Part Number 2: 579-39VF16827IB3KE; Mounting Technology: Surface Mount; Code_JEDEC: MO-210; ComponentLink1Description: Manufacturer URL; ComponentLink1URL: http://www.microchip.com; ComponentLink2Description: Datasheet; ComponentLink2URL: http://ww1.microchip.com/downloads/en/DeviceDoc/25040A.pdf; ComponentLink3Description: Package Specification; ComponentLink3URL: http://www.microchip.com/stellent/groups/techpub_sg/documents/packagingspec/en012702.pdf; ComponentLink4Description: Product URL; ComponentLink4URL: http://www.microchip.com/SST39VF1682
footprint MCHP-TFBGA-B3K48 (BGA, 48-Balls, Body 8x6mm, Pitch 0.8mm)
part A pins: A1 A4 (in) "To provide memory addresses. During Sector-Erase AMS-A12 address lines will select the sector. During Block-Erase AMS-A16 address lines will select the block.", A2 A8 (in) "To provide memory addresses. During Sector-Erase AMS-A12 address lines will select the sector. During Block-Erase AMS-A16 address lines will select the block.", A4 WE# (in) "To control the Write operations.", A5 A10 (in) "To provide memory addresses. During Sector-Erase AMS-A12 address lines will select the sector. During Block-Erase AMS-A16 address lines will select the block.", A6 A14 (in) "To provide memory addresses. During Sector-Erase AMS-A12 address lines will select the sector. During Block-Erase AMS-A16 address lines will select the block.", B1 A5 (in) "To provide memory addresses. During Sector-Erase AMS-A12 address lines will select the sector. During Block-Erase AMS-A16 address lines will select the block.", B2 A18 (in) "To provide memory addresses. During Sector-Erase AMS-A12 address lines will select the sector. During Block-Erase AMS-A16 address lines will select the block.", B3 WP# (in) "To protect the top/bottom boot block from Erase/Program operation when grounded.", B4 RST# (in) "To reset and return the device to Read mode.", B5 A9 (in) "To provide memory addresses. During Sector-Erase AMS-A12 address lines will select the sector. During Block-Erase AMS-A16 address lines will select the block.", B6 A13 (in) "To provide memory addresses. During Sector-Erase AMS-A12 address lines will select the sector. During Block-Erase AMS-A16 address lines will select the block.", C1 A3 (in) "To provide memory addresses. During Sector-Erase AMS-A12 address lines will select the sector. During Block-Erase AMS-A16 address lines will select the block.", C2 A7 (in) "To provide memory addresses. During Sector-Erase AMS-A12 address lines will select the sector. During Block-Erase AMS-A16 address lines will select the block.", C3 A19 (in) "To provide memory addresses. During Sector-Erase AMS-A12 address lines will select the sector. During Block-Erase AMS-A16 address lines will select the block.", C5 A11 (in) "To provide memory addresses. During Sector-Erase AMS-A12 address lines will select the sector. During Block-Erase AMS-A16 address lines will select the block.", C6 A15 (in) "To provide memory addresses. During Sector-Erase AMS-A12 address lines will select the sector. During Block-Erase AMS-A16 address lines will select the block.", D1 A2 (in) "To provide memory addresses. During Sector-Erase AMS-A12 address lines will select the sector. During Block-Erase AMS-A16 address lines will select the block.", D2 A6 (in) "To provide memory addresses. During Sector-Erase AMS-A12 address lines will select the sector. During Block-Erase AMS-A16 address lines will select the block.", D4 A20 (in) "To provide memory addresses. During Sector-Erase AMS-A12 address lines will select the sector. During Block-Erase AMS-A16 address lines will select the block.", D5 A12 (in) "To provide memory addresses. During Sector-Erase AMS-A12 address lines will select the sector. During Block-Erase AMS-A16 address lines will select the block.", D6 A16 (in) "To provide memory addresses. During Sector-Erase AMS-A12 address lines will select the sector. During Block-Erase AMS-A16 address lines will select the block.", E1 A1 (in) "To provide memory addresses. During Sector-Erase AMS-A12 address lines will select the sector. During Block-Erase AMS-A16 address lines will select the block.", E2 DQ0 (io) "To output data during Read cycles and receive input data during Write cycles.Data is internally latched during a Write cycle. The outputs are in tri-state when OE# or CE# is high.", E3 DQ2 (io) "To output data during Read cycles and receive input data during Write cycles.Data is internally latched during a Write cycle. The outputs are in tri-state when OE# or CE# is high.", E4 DQ5 (io) "To output data during Read cycles and receive input data during Write cycles.Data is internally latched during a Write cycle. The outputs are in tri-state when OE# or CE# is high.", E5 DQ7 (io) "To output data during Read cycles and receive input data during Write cycles.Data is internally latched during a Write cycle. The outputs are in tri-state when OE# or CE# is high.", E6 A17 (in) "To provide memory addresses. During Sector-Erase AMS-A12 address lines will select the sector. During Block-Erase AMS-A16 address lines will select the block.", F1 CE# (in) "To activate the device when CE# is low.", G1 OE# (in) "To gate the data output buffers.", G4 VDD (power) "To provide power supply voltage: 2.7-3.6V", G6 A0 (in) "To provide memory addresses. During Sector-Erase AMS-A12 address lines will select the sector. During Block-Erase AMS-A16 address lines will select the block.", H1 VSS (power), H2 DQ1 (io) "To output data during Read cycles and receive input data during Write cycles.Data is internally latched during a Write cycle. The outputs are in tri-state when OE# or CE# is high.", H3 DQ3 (io) "To output data during Read cycles and receive input data during Write cycles.Data is internally latched during a Write cycle. The outputs are in tri-state when OE# or CE# is high.", H4 DQ4 (io) "To output data during Read cycles and receive input data during Write cycles.Data is internally latched during a Write cycle. The outputs are in tri-state when OE# or CE# is high.", H5 DQ6 (io) "To output data during Read cycles and receive input data during Write cycles.Data is internally latched during a Write cycle. The outputs are in tri-state when OE# or CE# is high.", H6 VSS (power)
part B pins: A3 NC "Unconnected pins.", C4 NC "Unconnected pins.", D3 NC "Unconnected pins.", F2 NC "Unconnected pins.", F3 NC "Unconnected pins.", F4 NC "Unconnected pins.", F5 NC "Unconnected pins.", F6 NC "Unconnected pins.", G2 NC "Unconnected pins.", G3 NC "Unconnected pins.", G5 NC "Unconnected pins."